# Altium footprint library Resistors$.PcbLib: 35 footprints (part 2 of 3)
Each footprint in its own frame and in the unit in brackets; x right, y up, seen from the top. Pads: shape width x height; smd on the part's side, far side on the other; paste and mask are expansions set on the pad; w line width, h text height; cw(c..) or ccw(c..) is an arc to the next point about the centre after c.
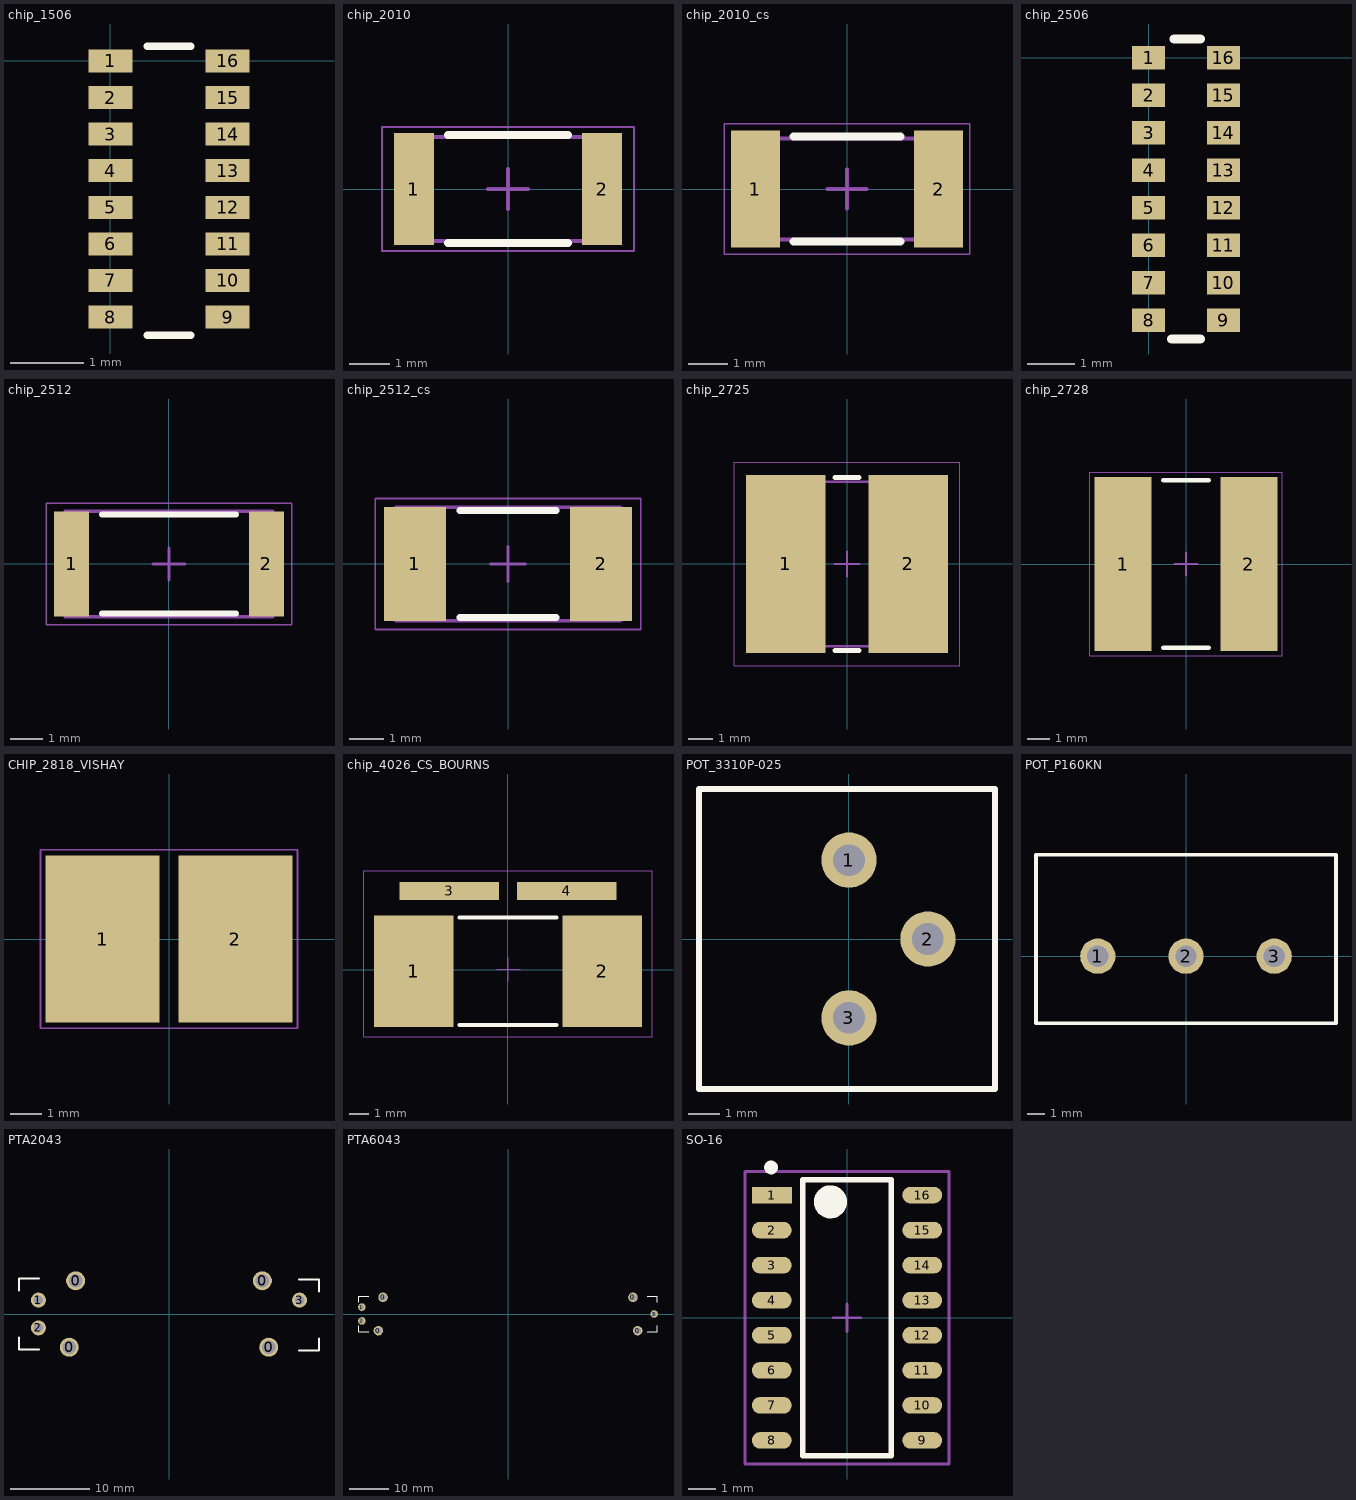
[diagram p1: the footprints below, top view; thin cyan lines are the x and y axes]

## chip_1506 [mm]
pads (16):
  rect 0.6x0.315 smd mask+0.045: 1(0,0) 2(0,-0.5) 3(0,-1) 4(0,-1.5) 5(0,-2) 6(0,-2.5) 7(0,-3) 8(0,-3.5) 9(1.6,-3.5) 10(1.6,-3) 11(1.6,-2.5) 12(1.6,-2) 13(1.6,-1.5) 14(1.6,-1) 15(1.6,-0.5) 16(1.6,0)
Top Overlay:
  lines w0.1: 0.5,-3.75 1.1,-3.75 ; 0.5,0.2 1.1,0.2
3D body: height 0.45, standoff 0, extent 0,-3.65 1.6,0.15

## chip_2010 [mm]
height 0.6
pads (2):
  rect 1x2.8 smd: 1(-2.35,0) 2(2.35,0)
Top Overlay:
  lines w0.2: -1.5,-1.35 1.5,-1.35 ; -1.5,1.35 1.5,1.35
Mechanical 13:
  lines w0.1: -2.55,-1.3 -2.55,1.3 2.55,1.3 2.55,-1.3 -2.55,-1.3
Mechanical 15:
  lines w0.05: -3.15,-1.55 -3.15,1.55 3.15,1.55 3.15,-1.55 -3.15,-1.55
  lines w0.1: -0.5,0 0.5,0 ; 0,-0.5 0,0.5
3D body: height 0.6, standoff 0, extent -1.95,-1.3 1.95,1.3
3D body: height 0.65, standoff 0, extent -2.55,-1.325 -1.95,1.325
3D body: height 0.65, standoff 0, extent 1.95,-1.325 2.55,1.325

## chip_2010_cs [mm]
height 0.6
pads (2):
  rect 1.25x3 smd: 1(-2.35,0) 2(2.35,0)
Top Overlay:
  lines w0.2: -1.375,-1.35 1.375,-1.35 ; -1.375,1.35 1.375,1.35
Mechanical 13:
  lines w0.1: -2.55,-1.3 -2.55,1.3 2.55,1.3 2.55,-1.3 -2.55,-1.3
Mechanical 15:
  lines w0.05: -3.15,-1.675 -3.15,1.675 3.15,1.675 3.15,-1.675 -3.15,-1.675
  lines w0.1: -0.5,0 0.5,0 ; 0,-0.5 0,0.5
3D body: height 0.6, standoff 0, extent -1.95,-1.3 1.95,1.3
3D body: height 0.65, standoff 0, extent -2.55,-1.325 -1.95,1.325
3D body: height 0.65, standoff 0, extent 1.95,-1.325 2.55,1.325

## chip_2506 [mm]
pads (16):
  rect 0.7x0.5 smd mask+0.062: 1(0,0) 2(0,-0.8) 3(0,-1.6) 4(0,-2.4) 5(0,-3.2) 6(0,-4) 7(0,-4.8) 8(0,-5.6) 9(1.6,-5.6) 10(1.6,-4.8) 11(1.6,-4) 12(1.6,-3.2) 13(1.6,-2.4) 14(1.6,-1.6) 15(1.6,-0.8) 16(1.6,0)
Top Overlay:
  lines w0.2: 0.5,-6 1.1,-6 ; 0.55,0.4 1.1,0.4
3D body: height 0.53, standoff 0, extent 0,-6 1.6,0.4

## chip_2512 [mm]
height 0.6
pads (2):
  rect 1.1x3.3 smd: 1(-3.05,0) 2(3.05,0)
Top Overlay:
  lines w0.2: -2.1,-1.55 2.1,-1.55 ; -2.1,1.55 2.1,1.55
Mechanical 13:
  lines w0.1: -3.25,-1.65 3.25,-1.65 3.25,1.65 -3.25,1.65 -3.25,-1.65
Mechanical 15:
  lines w0.05: -3.85,-1.9 3.85,-1.9 3.85,1.9 -3.85,1.9 -3.85,-1.9
  lines w0.1: -0.5,0 0.5,0 ; 0,-0.5 0,0.5
3D body: height 0.6, standoff 0, extent 2.65,-1.65 3.25,1.65
3D body: height 0.6, standoff 0, extent -3.25,-1.65 -2.65,1.65
3D body: height 0.6, standoff 0, extent -2.65,-1.65 2.65,1.65

## chip_2512_cs [mm]
height 0.6
pads (2):
  rect 1.8x3.3 smd: 1(-2.7,0) 2(2.7,0)
Top Overlay:
  lines w0.2: -1.4,-1.55 1.4,-1.55 ; -1.4,1.55 1.4,1.55
Mechanical 13:
  lines w0.1: -3.25,-1.65 -3.25,1.65 3.25,1.65 3.25,-1.65 -3.25,-1.65
Mechanical 15:
  lines w0.05: -3.85,-1.9 -3.85,1.9 3.85,1.9 3.85,-1.9 -3.85,-1.9
  lines w0.1: -0.5,0 0.5,0 ; 0,-0.5 0,0.5
3D body: height 0.6, standoff 0, extent -2.65,-1.65 2.65,1.65
3D body: height 0.6, standoff 0, extent -3.25,-1.65 -2.65,1.65
3D body: height 0.6, standoff 0, extent 2.65,-1.65 3.25,1.65

## chip_2725 [mm]
height 1.09
pads (2):
  rect 3.25x7.25 smd: 1(-2.5,0) 2(2.5,0)
Top Overlay:
  lines w0.2: -0.5,-3.525 0.5,-3.525 ; -0.5,3.525 0.5,3.525
Mechanical 13:
  lines w0.1: -3.53,-3.35 -3.53,3.35 3.53,3.35 3.53,-3.35 -3.53,-3.35
Mechanical 15:
  lines w0.05: -4.6,-4.15 -4.6,4.15 4.6,4.15 4.6,-4.15 -4.6,-4.15
  lines w0.1: -0.5,0 0.5,0 ; 0,-0.5 0,0.5
3D body: height 1.09, standoff 0, extent -1.37,-3.35 1.37,3.35
3D body: height 1.09, standoff 0, extent -3.53,-3.35 -1.37,3.35
3D body: height 1.09, standoff 0, extent 1.37,-3.35 3.53,3.35

## chip_2728 [mm]
height 1.09
pads (2):
  rect 2.5x7.6 smd: 1(-2.75,0) 2(2.75,0)
Top Overlay:
  lines w0.2: -1,-3.65 1,-3.65 ; -1,3.65 1,3.65
Mechanical 15:
  lines w0.05: -4.2,-4 -4.2,4 4.2,4 4.2,-4 -4.2,-4
  lines w0.1: -0.5,0 0.5,0 ; 0,-0.5 0,0.5
3D body "Stackpole_CSSH2728.stp": height 0.98, standoff -0.01, extent -3.355,-3.59 3.355,3.6

## CHIP_2818_VISHAY [mm] "2818 Power resistor"
pads (2):
  rect 3.63x5.33 smd: 1(-2.12,0) 2(2.12,0)
Mechanical 15:
  lines w0.05: -4.1,-2.85 -4.1,2.85 4.1,2.85 4.1,-2.85 -4.1,-2.85
3D body: height 1.5, standoff 0, extent -3.55,-2.3 3.55,2.3

## chip_4026_CS_BOURNS [mm]
pads (4):
  rect 4x5.6 smd: 1(-4.75,-0.075) 2(4.75,-0.075)
  rect 5x0.9 smd: 3(-2.95,3.975) 4(2.95,3.975)
Top Overlay:
  lines w0.2: -2.45,-2.775 2.45,-2.775 ; -2.45,2.625 2.45,2.625
Mechanical 15:
  lines w0.05: -0.575,0.025 0.625,0.025 ; 0,-0.575 0,0.625 ; -7.25,-3.375 -7.25,4.975 7.25,4.975 7.25,-3.375 -7.25,-3.375

## PCBComponent_1 [mm]

## POT_3310P-025 [mil] "Bourns 3310P-025 Series Potentiometers"
pads (3):
  round 70 hole 40: 1(0,100) 2(100,0) 3(0,-100)
Top Overlay:
  lines w7.87: -190,-190 185,-190 185,190 -190,190 -190,-190
3D body "3310p-025.stp": height 382.5, standoff -236, extent -190,-187.5 185,187.5

## POT_P160KN [mm] "Potentiometer, P160KN"
pads (3):
  round 2 hole 1.2: 1(-5,0) 2(0,0) 3(5,0)
Top Overlay:
  lines w0.2: -8.5,-3.8 8.5,-3.8 8.5,5.75 -8.5,5.75 -8.5,-3.8

## PTA2043 [mm] "PTA2043 Single Gang Potentiometer"
pads (7):
  round 2.4 hole 1.7: 0(-12.6,-4.2) 0(-11.8,4.2) 0(11.8,4.2) 0(12.6,-4.2)
  round 1.9 hole 1.194: 1(-16.5,1.75) 2(-16.5,-1.75) 3(16.5,1.75)
Top Overlay:
  lines w0.254: -18.958,-3 -18.958,-4.5 -16.458,-4.5 ; -18.958,3 -18.958,4.5 -16.458,4.5 ; 16.458,-4.627 18.958,-4.627 18.958,-3.127 ; 16.458,4.373 18.958,4.373 18.958,2.873

## PTA6043 [mm] "PTA6043 Single Gang Potentiometer"
pads (7):
  round 2.4 hole 1.7: 0(-32.6,-4.2) 0(-31.4,4.2) 0(31.4,4.2) 0(32.6,-4.2)
  round 1.9 hole 1.194: 1(-36.75,1.75) 2(-36.75,-1.75) 3(36.75,0)
Top Overlay:
  lines w0.254: -37.5,-3 -37.5,-4.5 -35,-4.5 ; -37.5,3 -37.5,4.5 -35,4.5 ; 35,-4.5 37.5,-4.5 37.5,-3 ; 35,4.5 37.5,4.5 37.5,3

## SO-16 [mm]
pads (16):
  rect 1.45x0.6 smd: 1(-2.725,4.445)
  oval 1.45x0.6 smd: 2(-2.725,3.175) 3(-2.725,1.905) 4(-2.725,0.635) 5(-2.725,-0.635) 6(-2.725,-1.905) 7(-2.725,-3.175) 8(-2.725,-4.445) 9(2.725,-4.445) 10(2.725,-3.175) 11(2.725,-1.905) 12(2.725,-0.635) 13(2.725,0.635) 14(2.725,1.905) 15(2.725,3.175) 16(2.725,4.445)
Top Overlay:
  circle w0.25: c-2.75,5.445 r0.125
  circle w0.6: c-0.6,4.2 r0.3
  lines w0.2: -1.6,-5 1.6,-5 1.6,5 -1.6,5 -1.6,-5
Mechanical 15:
  lines w0.1: -0.5,0 0.5,0 ; 0,-0.5 0,0.5 ; -3.7,-5.3 -3.7,5.3 3.7,5.3 3.7,-5.3 -3.7,-5.3
3D body "SOIC16 narrow.stp": height 2, standoff 0, extent -3.107,-5.045 3.057,5.035